# Altium integrated library Vishay Roederstein Electrolytic Radial-Lead Capacitor.IntLib: 1241 symbols (part 5 of 20)
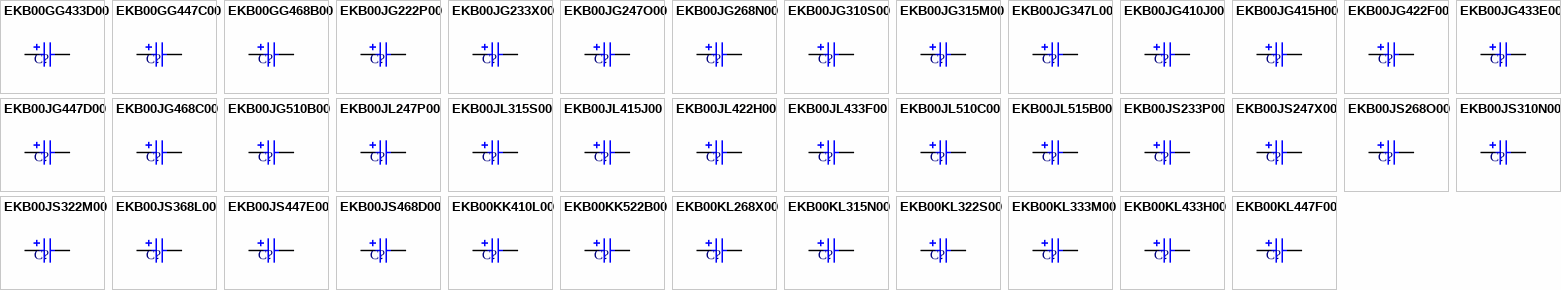
[diagram p35: symbols EKB00GG433D00 to EKB00KL447F00]

## EKB00JG468C00
designator C?
Aluminum Electrolytic Capacitor, Radial Style with Long Leads: 6800uF, 10V; Note: Refer to Manufacturer's Data Sheets for other lead formations; DrillSize: Nominal, Rounded To The Nearest 0.1mm; Published: 19-Mar-2004; DatasheetDocument: 21-Feb-2001; PackageReference: CAPPR7.5-16X25; Publisher: Altium Limited; ComponentLink1Description: Manufacturer Link; ComponentLink1URL: http://www.vishay.com/; ComponentLink2Description: Datasheet; ComponentLink2URL: http://www.vishay.com/docs/25013/ekb.pdf; Value: 6800uF
footprint CAPPR7.5-16X25 (Capacitor, Electrolytic, Radial; Body 16 x 25 mm (Dia.xH typ); Pin Spacing 7.5 mm (typ))
simulation model CAP (Capacitor)
signal-integrity model EKB00JG468C00
pins: 1, 2
1 alternate drawing of the same symbol

## EKB00JG510B00
designator C?
Aluminum Electrolytic Capacitor, Radial Style with Long Leads: 10000uF, 6.3V; Note: Refer to Manufacturer's Data Sheets for other lead formations; DrillSize: Nominal, Rounded To The Nearest 0.1mm; Published: 19-Mar-2004; DatasheetDocument: 21-Feb-2001; PackageReference: CAPPR7.5-16X25; Publisher: Altium Limited; ComponentLink1Description: Manufacturer Link; ComponentLink1URL: http://www.vishay.com/; ComponentLink2Description: Datasheet; ComponentLink2URL: http://www.vishay.com/docs/25013/ekb.pdf; Value: 10000uF
footprint CAPPR7.5-16X25 (Capacitor, Electrolytic, Radial; Body 16 x 25 mm (Dia.xH typ); Pin Spacing 7.5 mm (typ))
simulation model CAP (Capacitor)
signal-integrity model EKB00JG510B00
pins: 1, 2
1 alternate drawing of the same symbol

## EKB00JL247P00
designator C?
Aluminum Electrolytic Capacitor, Radial Style with Long Leads: 47uF, 450V; Note: Refer to Manufacturer's Data Sheets for other lead formations; DrillSize: Nominal, Rounded To The Nearest 0.1mm; Published: 19-Mar-2004; DatasheetDocument: 21-Feb-2001; PackageReference: CAPPR7.5-16X35.5; Publisher: Altium Limited; ComponentLink1Description: Manufacturer Link; ComponentLink1URL: http://www.vishay.com/; ComponentLink2Description: Datasheet; ComponentLink2URL: http://www.vishay.com/docs/25013/ekb.pdf; Value: 47uF
footprint CAPPR7.5-16X35.5 (Capacitor, Electrolytic, Radial; Body 16 x 35.5 mm (Dia.xH typ); Pin Spacing 7.5 mm (typ))
simulation model CAP (Capacitor)
signal-integrity model EKB00JL247P00
pins: 1, 2
1 alternate drawing of the same symbol

## EKB00JL315S00
designator C?
Aluminum Electrolytic Capacitor, Radial Style with Long Leads: 150uF, 200V; Note: Refer to Manufacturer's Data Sheets for other lead formations; DrillSize: Nominal, Rounded To The Nearest 0.1mm; Published: 19-Mar-2004; DatasheetDocument: 21-Feb-2001; PackageReference: CAPPR7.5-16X35.5; Publisher: Altium Limited; ComponentLink1Description: Manufacturer Link; ComponentLink1URL: http://www.vishay.com/; ComponentLink2Description: Datasheet; ComponentLink2URL: http://www.vishay.com/docs/25013/ekb.pdf; Value: 150uF
footprint CAPPR7.5-16X35.5 (Capacitor, Electrolytic, Radial; Body 16 x 35.5 mm (Dia.xH typ); Pin Spacing 7.5 mm (typ))
simulation model CAP (Capacitor)
signal-integrity model EKB00JL315S00
pins: 1, 2
1 alternate drawing of the same symbol

## EKB00JL415J00
designator C?
Aluminum Electrolytic Capacitor, Radial Style with Long Leads: 1500uF, 63V; Note: Refer to Manufacturer's Data Sheets for other lead formations; DrillSize: Nominal, Rounded To The Nearest 0.1mm; Published: 19-Mar-2004; DatasheetDocument: 21-Feb-2001; PackageReference: CAPPR7.5-16X35.5; Publisher: Altium Limited; ComponentLink1Description: Manufacturer Link; ComponentLink1URL: http://www.vishay.com/; ComponentLink2Description: Datasheet; ComponentLink2URL: http://www.vishay.com/docs/25013/ekb.pdf; Value: 1500uF
footprint CAPPR7.5-16X35.5 (Capacitor, Electrolytic, Radial; Body 16 x 35.5 mm (Dia.xH typ); Pin Spacing 7.5 mm (typ))
simulation model CAP (Capacitor)
signal-integrity model EKB00JL415J00
pins: 1, 2
1 alternate drawing of the same symbol

## EKB00JL422H00
designator C?
Aluminum Electrolytic Capacitor, Radial Style with Long Leads: 2200uF, 50V; Note: Refer to Manufacturer's Data Sheets for other lead formations; DrillSize: Nominal, Rounded To The Nearest 0.1mm; Published: 19-Mar-2004; DatasheetDocument: 21-Feb-2001; PackageReference: CAPPR7.5-16X35.5; Publisher: Altium Limited; ComponentLink1Description: Manufacturer Link; ComponentLink1URL: http://www.vishay.com/; ComponentLink2Description: Datasheet; ComponentLink2URL: http://www.vishay.com/docs/25013/ekb.pdf; Value: 2200uF
footprint CAPPR7.5-16X35.5 (Capacitor, Electrolytic, Radial; Body 16 x 35.5 mm (Dia.xH typ); Pin Spacing 7.5 mm (typ))
simulation model CAP (Capacitor)
signal-integrity model EKB00JL422H00
pins: 1, 2
1 alternate drawing of the same symbol

## EKB00JL433F00
designator C?
Aluminum Electrolytic Capacitor, Radial Style with Long Leads: 3300uF, 35V; Note: Refer to Manufacturer's Data Sheets for other lead formations; DrillSize: Nominal, Rounded To The Nearest 0.1mm; Published: 19-Mar-2004; DatasheetDocument: 21-Feb-2001; PackageReference: CAPPR7.5-16X35.5; Publisher: Altium Limited; ComponentLink1Description: Manufacturer Link; ComponentLink1URL: http://www.vishay.com/; ComponentLink2Description: Datasheet; ComponentLink2URL: http://www.vishay.com/docs/25013/ekb.pdf; Value: 3300uF
footprint CAPPR7.5-16X35.5 (Capacitor, Electrolytic, Radial; Body 16 x 35.5 mm (Dia.xH typ); Pin Spacing 7.5 mm (typ))
simulation model CAP (Capacitor)
signal-integrity model EKB00JL433F00
pins: 1, 2
1 alternate drawing of the same symbol

## EKB00JL510C00
designator C?
Aluminum Electrolytic Capacitor, Radial Style with Long Leads: 10000uF, 10V; Note: Refer to Manufacturer's Data Sheets for other lead formations; DrillSize: Nominal, Rounded To The Nearest 0.1mm; Published: 19-Mar-2004; DatasheetDocument: 21-Feb-2001; PackageReference: CAPPR7.5-16X35.5; Publisher: Altium Limited; ComponentLink1Description: Manufacturer Link; ComponentLink1URL: http://www.vishay.com/; ComponentLink2Description: Datasheet; ComponentLink2URL: http://www.vishay.com/docs/25013/ekb.pdf; Value: 10000uF
footprint CAPPR7.5-16X35.5 (Capacitor, Electrolytic, Radial; Body 16 x 35.5 mm (Dia.xH typ); Pin Spacing 7.5 mm (typ))
simulation model CAP (Capacitor)
signal-integrity model EKB00JL510C00
pins: 1, 2
1 alternate drawing of the same symbol

## EKB00JL515B00
designator C?
Aluminum Electrolytic Capacitor, Radial Style with Long Leads: 15000uF, 6.3V; Note: Refer to Manufacturer's Data Sheets for other lead formations; DrillSize: Nominal, Rounded To The Nearest 0.1mm; Published: 19-Mar-2004; DatasheetDocument: 21-Feb-2001; PackageReference: CAPPR7.5-16X35.5; Publisher: Altium Limited; ComponentLink1Description: Manufacturer Link; ComponentLink1URL: http://www.vishay.com/; ComponentLink2Description: Datasheet; ComponentLink2URL: http://www.vishay.com/docs/25013/ekb.pdf; Value: 15000uF
footprint CAPPR7.5-16X35.5 (Capacitor, Electrolytic, Radial; Body 16 x 35.5 mm (Dia.xH typ); Pin Spacing 7.5 mm (typ))
simulation model CAP (Capacitor)
signal-integrity model EKB00JL515B00
pins: 1, 2
1 alternate drawing of the same symbol

## EKB00JS233P00
designator C?
Aluminum Electrolytic Capacitor, Radial Style with Long Leads: 33uF, 450V; Note: Refer to Manufacturer's Data Sheets for other lead formations; DrillSize: Nominal, Rounded To The Nearest 0.1mm; Published: 19-Mar-2004; DatasheetDocument: 21-Feb-2001; PackageReference: CAPPR7.5-16X31.5; Publisher: Altium Limited; ComponentLink1Description: Manufacturer Link; ComponentLink1URL: http://www.vishay.com/; ComponentLink2Description: Datasheet; ComponentLink2URL: http://www.vishay.com/docs/25013/ekb.pdf; Value: 33uF
footprint CAPPR7.5-16X31.5 (Capacitor, Electrolytic, Radial; Body 16 x 31.5 mm (Dia.xH typ); Pin Spacing 7.5 mm (typ))
simulation model CAP (Capacitor)
signal-integrity model EKB00JS233P00
pins: 1, 2
1 alternate drawing of the same symbol

## EKB00JS247X00
designator C?
Aluminum Electrolytic Capacitor, Radial Style with Long Leads: 47uF, 400V; Note: Refer to Manufacturer's Data Sheets for other lead formations; DrillSize: Nominal, Rounded To The Nearest 0.1mm; Published: 19-Mar-2004; DatasheetDocument: 21-Feb-2001; PackageReference: CAPPR7.5-16X31.5; Publisher: Altium Limited; ComponentLink1Description: Manufacturer Link; ComponentLink1URL: http://www.vishay.com/; ComponentLink2Description: Datasheet; ComponentLink2URL: http://www.vishay.com/docs/25013/ekb.pdf; Value: 47uF
footprint CAPPR7.5-16X31.5 (Capacitor, Electrolytic, Radial; Body 16 x 31.5 mm (Dia.xH typ); Pin Spacing 7.5 mm (typ))
simulation model CAP (Capacitor)
signal-integrity model EKB00JS247X00
pins: 1, 2
1 alternate drawing of the same symbol

## EKB00JS268O00
designator C?
Aluminum Electrolytic Capacitor, Radial Style with Long Leads: 68uF, 350V; Note: Refer to Manufacturer's Data Sheets for other lead formations; DrillSize: Nominal, Rounded To The Nearest 0.1mm; Published: 19-Mar-2004; DatasheetDocument: 21-Feb-2001; PackageReference: CAPPR7.5-16X31.5; Publisher: Altium Limited; ComponentLink1Description: Manufacturer Link; ComponentLink1URL: http://www.vishay.com/; ComponentLink2Description: Datasheet; ComponentLink2URL: http://www.vishay.com/docs/25013/ekb.pdf; Value: 68uF
footprint CAPPR7.5-16X31.5 (Capacitor, Electrolytic, Radial; Body 16 x 31.5 mm (Dia.xH typ); Pin Spacing 7.5 mm (typ))
simulation model CAP (Capacitor)
signal-integrity model EKB00JS268O00
pins: 1, 2
1 alternate drawing of the same symbol

## EKB00JS310N00
designator C?
Aluminum Electrolytic Capacitor, Radial Style with Long Leads: 100uF, 250V; Note: Refer to Manufacturer's Data Sheets for other lead formations; DrillSize: Nominal, Rounded To The Nearest 0.1mm; Published: 19-Mar-2004; DatasheetDocument: 21-Feb-2001; PackageReference: CAPPR7.5-16X31.5; Publisher: Altium Limited; ComponentLink1Description: Manufacturer Link; ComponentLink1URL: http://www.vishay.com/; ComponentLink2Description: Datasheet; ComponentLink2URL: http://www.vishay.com/docs/25013/ekb.pdf; Value: 100uF
footprint CAPPR7.5-16X31.5 (Capacitor, Electrolytic, Radial; Body 16 x 31.5 mm (Dia.xH typ); Pin Spacing 7.5 mm (typ))
simulation model CAP (Capacitor)
signal-integrity model EKB00JS310N00
pins: 1, 2
1 alternate drawing of the same symbol

## EKB00JS322M00
designator C?
Aluminum Electrolytic Capacitor, Radial Style with Long Leads: 220uF, 160V; Note: Refer to Manufacturer's Data Sheets for other lead formations; DrillSize: Nominal, Rounded To The Nearest 0.1mm; Published: 19-Mar-2004; DatasheetDocument: 21-Feb-2001; PackageReference: CAPPR7.5-16X31.5; Publisher: Altium Limited; ComponentLink1Description: Manufacturer Link; ComponentLink1URL: http://www.vishay.com/; ComponentLink2Description: Datasheet; ComponentLink2URL: http://www.vishay.com/docs/25013/ekb.pdf; Value: 220uF
footprint CAPPR7.5-16X31.5 (Capacitor, Electrolytic, Radial; Body 16 x 31.5 mm (Dia.xH typ); Pin Spacing 7.5 mm (typ))
simulation model CAP (Capacitor)
signal-integrity model EKB00JS322M00
pins: 1, 2
1 alternate drawing of the same symbol

## EKB00JS368L00
designator C?
Aluminum Electrolytic Capacitor, Radial Style with Long Leads: 680uF, 100V; Note: Refer to Manufacturer's Data Sheets for other lead formations; DrillSize: Nominal, Rounded To The Nearest 0.1mm; Published: 19-Mar-2004; DatasheetDocument: 21-Feb-2001; PackageReference: CAPPR7.5-16X31.5; Publisher: Altium Limited; ComponentLink1Description: Manufacturer Link; ComponentLink1URL: http://www.vishay.com/; ComponentLink2Description: Datasheet; ComponentLink2URL: http://www.vishay.com/docs/25013/ekb.pdf; Value: 680uF
footprint CAPPR7.5-16X31.5 (Capacitor, Electrolytic, Radial; Body 16 x 31.5 mm (Dia.xH typ); Pin Spacing 7.5 mm (typ))
simulation model CAP (Capacitor)
signal-integrity model EKB00JS368L00
pins: 1, 2
1 alternate drawing of the same symbol

## EKB00JS447E00
designator C?
Aluminum Electrolytic Capacitor, Radial Style with Long Leads: 4700uF, 25V; Note: Refer to Manufacturer's Data Sheets for other lead formations; DrillSize: Nominal, Rounded To The Nearest 0.1mm; Published: 19-Mar-2004; DatasheetDocument: 21-Feb-2001; PackageReference: CAPPR7.5-16X31.5; Publisher: Altium Limited; ComponentLink1Description: Manufacturer Link; ComponentLink1URL: http://www.vishay.com/; ComponentLink2Description: Datasheet; ComponentLink2URL: http://www.vishay.com/docs/25013/ekb.pdf; Value: 4700uF
footprint CAPPR7.5-16X31.5 (Capacitor, Electrolytic, Radial; Body 16 x 31.5 mm (Dia.xH typ); Pin Spacing 7.5 mm (typ))
simulation model CAP (Capacitor)
signal-integrity model EKB00JS447E00
pins: 1, 2
1 alternate drawing of the same symbol

## EKB00JS468D00
designator C?
Aluminum Electrolytic Capacitor, Radial Style with Long Leads: 6800uF, 16V; Note: Refer to Manufacturer's Data Sheets for other lead formations; DrillSize: Nominal, Rounded To The Nearest 0.1mm; Published: 19-Mar-2004; DatasheetDocument: 21-Feb-2001; PackageReference: CAPPR7.5-16X31.5; Publisher: Altium Limited; ComponentLink1Description: Manufacturer Link; ComponentLink1URL: http://www.vishay.com/; ComponentLink2Description: Datasheet; ComponentLink2URL: http://www.vishay.com/docs/25013/ekb.pdf; Value: 6800uF
footprint CAPPR7.5-16X31.5 (Capacitor, Electrolytic, Radial; Body 16 x 31.5 mm (Dia.xH typ); Pin Spacing 7.5 mm (typ))
simulation model CAP (Capacitor)
signal-integrity model EKB00JS468D00
pins: 1, 2
1 alternate drawing of the same symbol

## EKB00KK410L00
designator C?
Aluminum Electrolytic Capacitor, Radial Style with Long Leads: 1000uF, 100V; Note: Refer to Manufacturer's Data Sheets for other lead formations; DrillSize: Nominal, Rounded To The Nearest 0.1mm; Published: 19-Mar-2004; DatasheetDocument: 21-Feb-2001; PackageReference: CAPPR7.5-18X40; Publisher: Altium Limited; ComponentLink1Description: Manufacturer Link; ComponentLink1URL: http://www.vishay.com/; ComponentLink2Description: Datasheet; ComponentLink2URL: http://www.vishay.com/docs/25013/ekb.pdf; Value: 1000uF
footprint CAPPR7.5-18X40 (Capacitor, Electrolytic, Radial; Body 18 x 40 mm (Dia.xH typ); Pin Spacing 7.5 mm (typ))
simulation model CAP (Capacitor)
signal-integrity model EKB00KK410L00
pins: 1, 2
1 alternate drawing of the same symbol

## EKB00KK522B00
designator C?
Aluminum Electrolytic Capacitor, Radial Style with Long Leads: 22000uF, 6.3V; Note: Refer to Manufacturer's Data Sheets for other lead formations; DrillSize: Nominal, Rounded To The Nearest 0.1mm; Published: 19-Mar-2004; DatasheetDocument: 21-Feb-2001; PackageReference: CAPPR7.5-18X40; Publisher: Altium Limited; ComponentLink1Description: Manufacturer Link; ComponentLink1URL: http://www.vishay.com/; ComponentLink2Description: Datasheet; ComponentLink2URL: http://www.vishay.com/docs/25013/ekb.pdf; Value: 22000uF
footprint CAPPR7.5-18X40 (Capacitor, Electrolytic, Radial; Body 18 x 40 mm (Dia.xH typ); Pin Spacing 7.5 mm (typ))
simulation model CAP (Capacitor)
signal-integrity model EKB00KK522B00
pins: 1, 2
1 alternate drawing of the same symbol

## EKB00KL268X00
designator C?
Aluminum Electrolytic Capacitor, Radial Style with Long Leads: 68uF, 400V; Note: Refer to Manufacturer's Data Sheets for other lead formations; DrillSize: Nominal, Rounded To The Nearest 0.1mm; Published: 19-Mar-2004; DatasheetDocument: 21-Feb-2001; PackageReference: CAPPR7.5-18X35.5; Publisher: Altium Limited; ComponentLink1Description: Manufacturer Link; ComponentLink1URL: http://www.vishay.com/; ComponentLink2Description: Datasheet; ComponentLink2URL: http://www.vishay.com/docs/25013/ekb.pdf; Value: 68uF
footprint CAPPR7.5-18X35.5 (Capacitor, Electrolytic, Radial; Body 18 x 35.5 mm (Dia.xH typ); Pin Spacing 7.5 mm (typ))
simulation model CAP (Capacitor)
signal-integrity model EKB00KL268X00
pins: 1, 2
1 alternate drawing of the same symbol

## EKB00KL315N00
designator C?
Aluminum Electrolytic Capacitor, Radial Style with Long Leads: 150uF, 250V; Note: Refer to Manufacturer's Data Sheets for other lead formations; DrillSize: Nominal, Rounded To The Nearest 0.1mm; Published: 19-Mar-2004; DatasheetDocument: 21-Feb-2001; PackageReference: CAPPR7.5-18X35.5; Publisher: Altium Limited; ComponentLink1Description: Manufacturer Link; ComponentLink1URL: http://www.vishay.com/; ComponentLink2Description: Datasheet; ComponentLink2URL: http://www.vishay.com/docs/25013/ekb.pdf; Value: 150uF
footprint CAPPR7.5-18X35.5 (Capacitor, Electrolytic, Radial; Body 18 x 35.5 mm (Dia.xH typ); Pin Spacing 7.5 mm (typ))
simulation model CAP (Capacitor)
signal-integrity model EKB00KL315N00
pins: 1, 2
1 alternate drawing of the same symbol

## EKB00KL322S00
designator C?
Aluminum Electrolytic Capacitor, Radial Style with Long Leads: 220uF, 200V; Note: Refer to Manufacturer's Data Sheets for other lead formations; DrillSize: Nominal, Rounded To The Nearest 0.1mm; Published: 19-Mar-2004; DatasheetDocument: 21-Feb-2001; PackageReference: CAPPR7.5-18X35.5; Publisher: Altium Limited; ComponentLink1Description: Manufacturer Link; ComponentLink1URL: http://www.vishay.com/; ComponentLink2Description: Datasheet; ComponentLink2URL: http://www.vishay.com/docs/25013/ekb.pdf; Value: 220uF
footprint CAPPR7.5-18X35.5 (Capacitor, Electrolytic, Radial; Body 18 x 35.5 mm (Dia.xH typ); Pin Spacing 7.5 mm (typ))
simulation model CAP (Capacitor)
signal-integrity model EKB00KL322S00
pins: 1, 2
1 alternate drawing of the same symbol

## EKB00KL333M00
designator C?
Aluminum Electrolytic Capacitor, Radial Style with Long Leads: 330uF, 160V; Note: Refer to Manufacturer's Data Sheets for other lead formations; DrillSize: Nominal, Rounded To The Nearest 0.1mm; Published: 19-Mar-2004; DatasheetDocument: 21-Feb-2001; PackageReference: CAPPR7.5-18X35.5; Publisher: Altium Limited; ComponentLink1Description: Manufacturer Link; ComponentLink1URL: http://www.vishay.com/; ComponentLink2Description: Datasheet; ComponentLink2URL: http://www.vishay.com/docs/25013/ekb.pdf; Value: 330uF
footprint CAPPR7.5-18X35.5 (Capacitor, Electrolytic, Radial; Body 18 x 35.5 mm (Dia.xH typ); Pin Spacing 7.5 mm (typ))
simulation model CAP (Capacitor)
signal-integrity model EKB00KL333M00
pins: 1, 2
1 alternate drawing of the same symbol

## EKB00KL433H00
designator C?
Aluminum Electrolytic Capacitor, Radial Style with Long Leads: 3300uF, 50V; Note: Refer to Manufacturer's Data Sheets for other lead formations; DrillSize: Nominal, Rounded To The Nearest 0.1mm; Published: 19-Mar-2004; DatasheetDocument: 21-Feb-2001; PackageReference: CAPPR7.5-18X35.5; Publisher: Altium Limited; ComponentLink1Description: Manufacturer Link; ComponentLink1URL: http://www.vishay.com/; ComponentLink2Description: Datasheet; ComponentLink2URL: http://www.vishay.com/docs/25013/ekb.pdf; Value: 3300uF
footprint CAPPR7.5-18X35.5 (Capacitor, Electrolytic, Radial; Body 18 x 35.5 mm (Dia.xH typ); Pin Spacing 7.5 mm (typ))
simulation model CAP (Capacitor)
signal-integrity model EKB00KL433H00
pins: 1, 2
1 alternate drawing of the same symbol

## EKB00KL447F00
designator C?
Aluminum Electrolytic Capacitor, Radial Style with Long Leads: 4700uF, 35V; Note: Refer to Manufacturer's Data Sheets for other lead formations; DrillSize: Nominal, Rounded To The Nearest 0.1mm; Published: 19-Mar-2004; DatasheetDocument: 21-Feb-2001; PackageReference: CAPPR7.5-18X35.5; Publisher: Altium Limited; ComponentLink1Description: Manufacturer Link; ComponentLink1URL: http://www.vishay.com/; ComponentLink2Description: Datasheet; ComponentLink2URL: http://www.vishay.com/docs/25013/ekb.pdf; Value: 4700uF
footprint CAPPR7.5-18X35.5 (Capacitor, Electrolytic, Radial; Body 18 x 35.5 mm (Dia.xH typ); Pin Spacing 7.5 mm (typ))
simulation model CAP (Capacitor)
signal-integrity model EKB00KL447F00
pins: 1, 2
1 alternate drawing of the same symbol

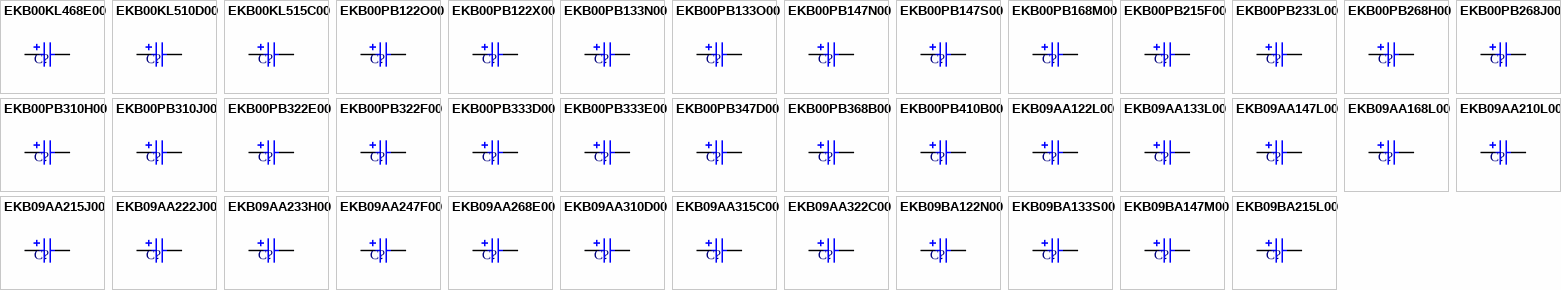
[diagram p7: symbols EKB00KL468E00 to EKB09BA215L00]

## EKB00KL468E00
designator C?
Aluminum Electrolytic Capacitor, Radial Style with Long Leads: 6800uF, 25V; Note: Refer to Manufacturer's Data Sheets for other lead formations; DrillSize: Nominal, Rounded To The Nearest 0.1mm; Published: 19-Mar-2004; DatasheetDocument: 21-Feb-2001; PackageReference: CAPPR7.5-18X35.5; Publisher: Altium Limited; ComponentLink1Description: Manufacturer Link; ComponentLink1URL: http://www.vishay.com/; ComponentLink2Description: Datasheet; ComponentLink2URL: http://www.vishay.com/docs/25013/ekb.pdf; Value: 6800uF
footprint CAPPR7.5-18X35.5 (Capacitor, Electrolytic, Radial; Body 18 x 35.5 mm (Dia.xH typ); Pin Spacing 7.5 mm (typ))
simulation model CAP (Capacitor)
signal-integrity model EKB00KL468E00
pins: 1, 2
1 alternate drawing of the same symbol

## EKB00KL510D00
designator C?
Aluminum Electrolytic Capacitor, Radial Style with Long Leads: 10000uF, 16V; Note: Refer to Manufacturer's Data Sheets for other lead formations; DrillSize: Nominal, Rounded To The Nearest 0.1mm; Published: 19-Mar-2004; DatasheetDocument: 21-Feb-2001; PackageReference: CAPPR7.5-18X35.5; Publisher: Altium Limited; ComponentLink1Description: Manufacturer Link; ComponentLink1URL: http://www.vishay.com/; ComponentLink2Description: Datasheet; ComponentLink2URL: http://www.vishay.com/docs/25013/ekb.pdf; Value: 10000uF
footprint CAPPR7.5-18X35.5 (Capacitor, Electrolytic, Radial; Body 18 x 35.5 mm (Dia.xH typ); Pin Spacing 7.5 mm (typ))
simulation model CAP (Capacitor)
signal-integrity model EKB00KL510D00
pins: 1, 2
1 alternate drawing of the same symbol

## EKB00KL515C00
designator C?
Aluminum Electrolytic Capacitor, Radial Style with Long Leads: 15000uF, 10V; Note: Refer to Manufacturer's Data Sheets for other lead formations; DrillSize: Nominal, Rounded To The Nearest 0.1mm; Published: 19-Mar-2004; DatasheetDocument: 21-Feb-2001; PackageReference: CAPPR7.5-18X35.5; Publisher: Altium Limited; ComponentLink1Description: Manufacturer Link; ComponentLink1URL: http://www.vishay.com/; ComponentLink2Description: Datasheet; ComponentLink2URL: http://www.vishay.com/docs/25013/ekb.pdf; Value: 15000uF
footprint CAPPR7.5-18X35.5 (Capacitor, Electrolytic, Radial; Body 18 x 35.5 mm (Dia.xH typ); Pin Spacing 7.5 mm (typ))
simulation model CAP (Capacitor)
signal-integrity model EKB00KL515C00
pins: 1, 2
1 alternate drawing of the same symbol

## EKB00PB122O00
designator C?
Aluminum Electrolytic Capacitor, Radial Style with Long Leads: 2.2uF, 350V; Note: Refer to Manufacturer's Data Sheets for other lead formations; DrillSize: Nominal, Rounded To The Nearest 0.1mm; Published: 19-Mar-2004; DatasheetDocument: 21-Feb-2001; PackageReference: CAPPR3.5-8X11.5; Publisher: Altium Limited; ComponentLink1Description: Manufacturer Link; ComponentLink1URL: http://www.vishay.com/; ComponentLink2Description: Datasheet; ComponentLink2URL: http://www.vishay.com/docs/25013/ekb.pdf; Value: 2.2uF
footprint CAPPR3.5-8X11.5 (Capacitor, Electrolytic, Radial; Body 8 x 11.5 mm (Dia.xH typ); Pin Spacing 3.5 mm (typ))
simulation model CAP (Capacitor)
signal-integrity model EKB00PB122O00
pins: 1, 2
1 alternate drawing of the same symbol

## EKB00PB122X00
designator C?
Aluminum Electrolytic Capacitor, Radial Style with Long Leads: 2.2uF, 400V; Note: Refer to Manufacturer's Data Sheets for other lead formations; DrillSize: Nominal, Rounded To The Nearest 0.1mm; Published: 19-Mar-2004; DatasheetDocument: 21-Feb-2001; PackageReference: CAPPR3.5-8X11.5; Publisher: Altium Limited; ComponentLink1Description: Manufacturer Link; ComponentLink1URL: http://www.vishay.com/; ComponentLink2Description: Datasheet; ComponentLink2URL: http://www.vishay.com/docs/25013/ekb.pdf; Value: 2.2uF
footprint CAPPR3.5-8X11.5 (Capacitor, Electrolytic, Radial; Body 8 x 11.5 mm (Dia.xH typ); Pin Spacing 3.5 mm (typ))
simulation model CAP (Capacitor)
signal-integrity model EKB00PB122X00
pins: 1, 2
1 alternate drawing of the same symbol

## EKB00PB133N00
designator C?
Aluminum Electrolytic Capacitor, Radial Style with Long Leads: 3.3uF, 250V; Note: Refer to Manufacturer's Data Sheets for other lead formations; DrillSize: Nominal, Rounded To The Nearest 0.1mm; Published: 19-Mar-2004; DatasheetDocument: 21-Feb-2001; PackageReference: CAPPR3.5-8X11.5; Publisher: Altium Limited; ComponentLink1Description: Manufacturer Link; ComponentLink1URL: http://www.vishay.com/; ComponentLink2Description: Datasheet; ComponentLink2URL: http://www.vishay.com/docs/25013/ekb.pdf; Value: 3.3uF
footprint CAPPR3.5-8X11.5 (Capacitor, Electrolytic, Radial; Body 8 x 11.5 mm (Dia.xH typ); Pin Spacing 3.5 mm (typ))
simulation model CAP (Capacitor)
signal-integrity model EKB00PB133N00
pins: 1, 2
1 alternate drawing of the same symbol

## EKB00PB133O00
designator C?
Aluminum Electrolytic Capacitor, Radial Style with Long Leads: 3.3uF, 350V; Note: Refer to Manufacturer's Data Sheets for other lead formations; DrillSize: Nominal, Rounded To The Nearest 0.1mm; Published: 19-Mar-2004; DatasheetDocument: 21-Feb-2001; PackageReference: CAPPR3.5-8X11.5; Publisher: Altium Limited; ComponentLink1Description: Manufacturer Link; ComponentLink1URL: http://www.vishay.com/; ComponentLink2Description: Datasheet; ComponentLink2URL: http://www.vishay.com/docs/25013/ekb.pdf; Value: 3.3uF
footprint CAPPR3.5-8X11.5 (Capacitor, Electrolytic, Radial; Body 8 x 11.5 mm (Dia.xH typ); Pin Spacing 3.5 mm (typ))
simulation model CAP (Capacitor)
signal-integrity model EKB00PB133O00
pins: 1, 2
1 alternate drawing of the same symbol

## EKB00PB147N00
designator C?
Aluminum Electrolytic Capacitor, Radial Style with Long Leads: 4.7uF, 250V; Note: Refer to Manufacturer's Data Sheets for other lead formations; DrillSize: Nominal, Rounded To The Nearest 0.1mm; Published: 19-Mar-2004; DatasheetDocument: 21-Feb-2001; PackageReference: CAPPR3.5-8X11.5; Publisher: Altium Limited; ComponentLink1Description: Manufacturer Link; ComponentLink1URL: http://www.vishay.com/; ComponentLink2Description: Datasheet; ComponentLink2URL: http://www.vishay.com/docs/25013/ekb.pdf; Value: 4.7uF
footprint CAPPR3.5-8X11.5 (Capacitor, Electrolytic, Radial; Body 8 x 11.5 mm (Dia.xH typ); Pin Spacing 3.5 mm (typ))
simulation model CAP (Capacitor)
signal-integrity model EKB00PB147N00
pins: 1, 2
1 alternate drawing of the same symbol

## EKB00PB147S00
designator C?
Aluminum Electrolytic Capacitor, Radial Style with Long Leads: 4.7uF, 200V; Note: Refer to Manufacturer's Data Sheets for other lead formations; DrillSize: Nominal, Rounded To The Nearest 0.1mm; Published: 19-Mar-2004; DatasheetDocument: 21-Feb-2001; PackageReference: CAPPR3.5-8X11.5; Publisher: Altium Limited; ComponentLink1Description: Manufacturer Link; ComponentLink1URL: http://www.vishay.com/; ComponentLink2Description: Datasheet; ComponentLink2URL: http://www.vishay.com/docs/25013/ekb.pdf; Value: 4.7uF
footprint CAPPR3.5-8X11.5 (Capacitor, Electrolytic, Radial; Body 8 x 11.5 mm (Dia.xH typ); Pin Spacing 3.5 mm (typ))
simulation model CAP (Capacitor)
signal-integrity model EKB00PB147S00
pins: 1, 2
1 alternate drawing of the same symbol

## EKB00PB168M00
designator C?
Aluminum Electrolytic Capacitor, Radial Style with Long Leads: 6.8uF, 160V; Note: Refer to Manufacturer's Data Sheets for other lead formations; DrillSize: Nominal, Rounded To The Nearest 0.1mm; Published: 19-Mar-2004; DatasheetDocument: 21-Feb-2001; PackageReference: CAPPR3.5-8X11.5; Publisher: Altium Limited; ComponentLink1Description: Manufacturer Link; ComponentLink1URL: http://www.vishay.com/; ComponentLink2Description: Datasheet; ComponentLink2URL: http://www.vishay.com/docs/25013/ekb.pdf; Value: 6.8uF
footprint CAPPR3.5-8X11.5 (Capacitor, Electrolytic, Radial; Body 8 x 11.5 mm (Dia.xH typ); Pin Spacing 3.5 mm (typ))
simulation model CAP (Capacitor)
signal-integrity model EKB00PB168M00
pins: 1, 2
1 alternate drawing of the same symbol

## EKB00PB215F00
designator C?
Aluminum Electrolytic Capacitor, Radial Style with Long Leads: 150uF, 35V; Note: Refer to Manufacturer's Data Sheets for other lead formations; DrillSize: Nominal, Rounded To The Nearest 0.1mm; Published: 19-Mar-2004; DatasheetDocument: 21-Feb-2001; PackageReference: CAPPR3.5-8X11.5; Publisher: Altium Limited; ComponentLink1Description: Manufacturer Link; ComponentLink1URL: http://www.vishay.com/; ComponentLink2Description: Datasheet; ComponentLink2URL: http://www.vishay.com/docs/25013/ekb.pdf; Value: 150uF
footprint CAPPR3.5-8X11.5 (Capacitor, Electrolytic, Radial; Body 8 x 11.5 mm (Dia.xH typ); Pin Spacing 3.5 mm (typ))
simulation model CAP (Capacitor)
signal-integrity model EKB00PB215F00
pins: 1, 2
1 alternate drawing of the same symbol

## EKB00PB233L00
designator C?
Aluminum Electrolytic Capacitor, Radial Style with Long Leads: 33uF, 100V; Note: Refer to Manufacturer's Data Sheets for other lead formations; DrillSize: Nominal, Rounded To The Nearest 0.1mm; Published: 19-Mar-2004; DatasheetDocument: 21-Feb-2001; PackageReference: CAPPR3.5-8X11.5; Publisher: Altium Limited; ComponentLink1Description: Manufacturer Link; ComponentLink1URL: http://www.vishay.com/; ComponentLink2Description: Datasheet; ComponentLink2URL: http://www.vishay.com/docs/25013/ekb.pdf; Value: 33uF
footprint CAPPR3.5-8X11.5 (Capacitor, Electrolytic, Radial; Body 8 x 11.5 mm (Dia.xH typ); Pin Spacing 3.5 mm (typ))
simulation model CAP (Capacitor)
signal-integrity model EKB00PB233L00
pins: 1, 2
1 alternate drawing of the same symbol

## EKB00PB268H00
designator C?
Aluminum Electrolytic Capacitor, Radial Style with Long Leads: 68uF, 50V; Note: Refer to Manufacturer's Data Sheets for other lead formations; DrillSize: Nominal, Rounded To The Nearest 0.1mm; Published: 19-Mar-2004; DatasheetDocument: 21-Feb-2001; PackageReference: CAPPR3.5-8X11.5; Publisher: Altium Limited; ComponentLink1Description: Manufacturer Link; ComponentLink1URL: http://www.vishay.com/; ComponentLink2Description: Datasheet; ComponentLink2URL: http://www.vishay.com/docs/25013/ekb.pdf; Value: 68uF
footprint CAPPR3.5-8X11.5 (Capacitor, Electrolytic, Radial; Body 8 x 11.5 mm (Dia.xH typ); Pin Spacing 3.5 mm (typ))
simulation model CAP (Capacitor)
signal-integrity model EKB00PB268H00
pins: 1, 2
1 alternate drawing of the same symbol

## EKB00PB268J00
designator C?
Aluminum Electrolytic Capacitor, Radial Style with Long Leads: 68uF, 63V; Note: Refer to Manufacturer's Data Sheets for other lead formations; DrillSize: Nominal, Rounded To The Nearest 0.1mm; Published: 19-Mar-2004; DatasheetDocument: 21-Feb-2001; PackageReference: CAPPR3.5-8X11.5; Publisher: Altium Limited; ComponentLink1Description: Manufacturer Link; ComponentLink1URL: http://www.vishay.com/; ComponentLink2Description: Datasheet; ComponentLink2URL: http://www.vishay.com/docs/25013/ekb.pdf; Value: 68uF
footprint CAPPR3.5-8X11.5 (Capacitor, Electrolytic, Radial; Body 8 x 11.5 mm (Dia.xH typ); Pin Spacing 3.5 mm (typ))
simulation model CAP (Capacitor)
signal-integrity model EKB00PB268J00
pins: 1, 2
1 alternate drawing of the same symbol

## EKB00PB310H00
designator C?
Aluminum Electrolytic Capacitor, Radial Style with Long Leads: 100uF, 50V; Note: Refer to Manufacturer's Data Sheets for other lead formations; DrillSize: Nominal, Rounded To The Nearest 0.1mm; Published: 19-Mar-2004; DatasheetDocument: 21-Feb-2001; PackageReference: CAPPR3.5-8X11.5; Publisher: Altium Limited; ComponentLink1Description: Manufacturer Link; ComponentLink1URL: http://www.vishay.com/; ComponentLink2Description: Datasheet; ComponentLink2URL: http://www.vishay.com/docs/25013/ekb.pdf; Value: 100uF
footprint CAPPR3.5-8X11.5 (Capacitor, Electrolytic, Radial; Body 8 x 11.5 mm (Dia.xH typ); Pin Spacing 3.5 mm (typ))
simulation model CAP (Capacitor)
signal-integrity model EKB00PB310H00
pins: 1, 2
1 alternate drawing of the same symbol

## EKB00PB310J00
designator C?
Aluminum Electrolytic Capacitor, Radial Style with Long Leads: 100uF, 63V; Note: Refer to Manufacturer's Data Sheets for other lead formations; DrillSize: Nominal, Rounded To The Nearest 0.1mm; Published: 19-Mar-2004; DatasheetDocument: 21-Feb-2001; PackageReference: CAPPR3.5-8X11.5; Publisher: Altium Limited; ComponentLink1Description: Manufacturer Link; ComponentLink1URL: http://www.vishay.com/; ComponentLink2Description: Datasheet; ComponentLink2URL: http://www.vishay.com/docs/25013/ekb.pdf; Value: 100uF
footprint CAPPR3.5-8X11.5 (Capacitor, Electrolytic, Radial; Body 8 x 11.5 mm (Dia.xH typ); Pin Spacing 3.5 mm (typ))
simulation model CAP (Capacitor)
signal-integrity model EKB00PB310J00
pins: 1, 2
1 alternate drawing of the same symbol

## EKB00PB322E00
designator C?
Aluminum Electrolytic Capacitor, Radial Style with Long Leads: 220uF, 25V; Note: Refer to Manufacturer's Data Sheets for other lead formations; DrillSize: Nominal, Rounded To The Nearest 0.1mm; Published: 19-Mar-2004; DatasheetDocument: 21-Feb-2001; PackageReference: CAPPR3.5-8X11.5; Publisher: Altium Limited; ComponentLink1Description: Manufacturer Link; ComponentLink1URL: http://www.vishay.com/; ComponentLink2Description: Datasheet; ComponentLink2URL: http://www.vishay.com/docs/25013/ekb.pdf; Value: 220uF
footprint CAPPR3.5-8X11.5 (Capacitor, Electrolytic, Radial; Body 8 x 11.5 mm (Dia.xH typ); Pin Spacing 3.5 mm (typ))
simulation model CAP (Capacitor)
signal-integrity model EKB00PB322E00
pins: 1, 2
1 alternate drawing of the same symbol

## EKB00PB322F00
designator C?
Aluminum Electrolytic Capacitor, Radial Style with Long Leads: 220uF, 35V; Note: Refer to Manufacturer's Data Sheets for other lead formations; DrillSize: Nominal, Rounded To The Nearest 0.1mm; Published: 19-Mar-2004; DatasheetDocument: 21-Feb-2001; PackageReference: CAPPR3.5-8X11.5; Publisher: Altium Limited; ComponentLink1Description: Manufacturer Link; ComponentLink1URL: http://www.vishay.com/; ComponentLink2Description: Datasheet; ComponentLink2URL: http://www.vishay.com/docs/25013/ekb.pdf; Value: 220uF
footprint CAPPR3.5-8X11.5 (Capacitor, Electrolytic, Radial; Body 8 x 11.5 mm (Dia.xH typ); Pin Spacing 3.5 mm (typ))
simulation model CAP (Capacitor)
signal-integrity model EKB00PB322F00
pins: 1, 2
1 alternate drawing of the same symbol

## EKB00PB333D00
designator C?
Aluminum Electrolytic Capacitor, Radial Style with Long Leads: 330uF, 16V; Note: Refer to Manufacturer's Data Sheets for other lead formations; DrillSize: Nominal, Rounded To The Nearest 0.1mm; Published: 19-Mar-2004; DatasheetDocument: 21-Feb-2001; PackageReference: CAPPR3.5-8X11.5; Publisher: Altium Limited; ComponentLink1Description: Manufacturer Link; ComponentLink1URL: http://www.vishay.com/; ComponentLink2Description: Datasheet; ComponentLink2URL: http://www.vishay.com/docs/25013/ekb.pdf; Value: 330uF
footprint CAPPR3.5-8X11.5 (Capacitor, Electrolytic, Radial; Body 8 x 11.5 mm (Dia.xH typ); Pin Spacing 3.5 mm (typ))
simulation model CAP (Capacitor)
signal-integrity model EKB00PB333D00
pins: 1, 2
1 alternate drawing of the same symbol

## EKB00PB333E00
designator C?
Aluminum Electrolytic Capacitor, Radial Style with Long Leads: 330uF, 25V; Note: Refer to Manufacturer's Data Sheets for other lead formations; DrillSize: Nominal, Rounded To The Nearest 0.1mm; Published: 19-Mar-2004; DatasheetDocument: 21-Feb-2001; PackageReference: CAPPR3.5-8X11.5; Publisher: Altium Limited; ComponentLink1Description: Manufacturer Link; ComponentLink1URL: http://www.vishay.com/; ComponentLink2Description: Datasheet; ComponentLink2URL: http://www.vishay.com/docs/25013/ekb.pdf; Value: 330uF
footprint CAPPR3.5-8X11.5 (Capacitor, Electrolytic, Radial; Body 8 x 11.5 mm (Dia.xH typ); Pin Spacing 3.5 mm (typ))
simulation model CAP (Capacitor)
signal-integrity model EKB00PB333E00
pins: 1, 2
1 alternate drawing of the same symbol

## EKB00PB347D00
designator C?
Aluminum Electrolytic Capacitor, Radial Style with Long Leads: 470uF, 16V; Note: Refer to Manufacturer's Data Sheets for other lead formations; DrillSize: Nominal, Rounded To The Nearest 0.1mm; Published: 19-Mar-2004; DatasheetDocument: 21-Feb-2001; PackageReference: CAPPR3.5-8X11.5; Publisher: Altium Limited; ComponentLink1Description: Manufacturer Link; ComponentLink1URL: http://www.vishay.com/; ComponentLink2Description: Datasheet; ComponentLink2URL: http://www.vishay.com/docs/25013/ekb.pdf; Value: 470uF
footprint CAPPR3.5-8X11.5 (Capacitor, Electrolytic, Radial; Body 8 x 11.5 mm (Dia.xH typ); Pin Spacing 3.5 mm (typ))
simulation model CAP (Capacitor)
signal-integrity model EKB00PB347D00
pins: 1, 2
1 alternate drawing of the same symbol

## EKB00PB368B00
designator C?
Aluminum Electrolytic Capacitor, Radial Style with Long Leads: 680uF, 6.3V; Note: Refer to Manufacturer's Data Sheets for other lead formations; DrillSize: Nominal, Rounded To The Nearest 0.1mm; Published: 19-Mar-2004; DatasheetDocument: 21-Feb-2001; PackageReference: CAPPR3.5-8X11.5; Publisher: Altium Limited; ComponentLink1Description: Manufacturer Link; ComponentLink1URL: http://www.vishay.com/; ComponentLink2Description: Datasheet; ComponentLink2URL: http://www.vishay.com/docs/25013/ekb.pdf; Value: 680uF
footprint CAPPR3.5-8X11.5 (Capacitor, Electrolytic, Radial; Body 8 x 11.5 mm (Dia.xH typ); Pin Spacing 3.5 mm (typ))
simulation model CAP (Capacitor)
signal-integrity model EKB00PB368B00
pins: 1, 2
1 alternate drawing of the same symbol

## EKB00PB410B00
designator C?
Aluminum Electrolytic Capacitor, Radial Style with Long Leads: 1000uF, 6.3V; Note: Refer to Manufacturer's Data Sheets for other lead formations; DrillSize: Nominal, Rounded To The Nearest 0.1mm; Published: 19-Mar-2004; DatasheetDocument: 21-Feb-2001; PackageReference: CAPPR3.5-8X11.5; Publisher: Altium Limited; ComponentLink1Description: Manufacturer Link; ComponentLink1URL: http://www.vishay.com/; ComponentLink2Description: Datasheet; ComponentLink2URL: http://www.vishay.com/docs/25013/ekb.pdf; Value: 1000uF
footprint CAPPR3.5-8X11.5 (Capacitor, Electrolytic, Radial; Body 8 x 11.5 mm (Dia.xH typ); Pin Spacing 3.5 mm (typ))
simulation model CAP (Capacitor)
signal-integrity model EKB00PB410B00
pins: 1, 2
1 alternate drawing of the same symbol

## EKB09AA122L00
designator C?
Aluminum Electrolytic Capacitor, Radial Style with Leads Bent Open, Shortened: 2.2uF, 100V; Note: Refer to Manufacturer's Data Sheets for other lead formations; DrillSize: Nominal, Rounded To The Nearest 0.1mm; Published: 19-Mar-2004; DatasheetDocument: 21-Feb-2001; PackageReference: CAPPR5-5X11; Publisher: Altium Limited; ComponentLink1Description: Manufacturer Link; ComponentLink1URL: http://www.vishay.com/; ComponentLink2Description: Datasheet; ComponentLink2URL: http://www.vishay.com/docs/25013/ekb.pdf; Value: 2.2uF
footprint CAPPR5-5X11 (Capacitor, Electrolytic, Radial; Body 5 x 11 mm (Dia.xH typ); Pin Spacing 5 mm (typ))
simulation model CAP (Capacitor)
signal-integrity model EKB09AA122L00
pins: 1, 2
1 alternate drawing of the same symbol

## EKB09AA133L00
designator C?
Aluminum Electrolytic Capacitor, Radial Style with Leads Bent Open, Shortened: 3.3uF, 100V; Note: Refer to Manufacturer's Data Sheets for other lead formations; DrillSize: Nominal, Rounded To The Nearest 0.1mm; Published: 19-Mar-2004; DatasheetDocument: 21-Feb-2001; PackageReference: CAPPR5-5X11; Publisher: Altium Limited; ComponentLink1Description: Manufacturer Link; ComponentLink1URL: http://www.vishay.com/; ComponentLink2Description: Datasheet; ComponentLink2URL: http://www.vishay.com/docs/25013/ekb.pdf; Value: 3.3uF
footprint CAPPR5-5X11 (Capacitor, Electrolytic, Radial; Body 5 x 11 mm (Dia.xH typ); Pin Spacing 5 mm (typ))
simulation model CAP (Capacitor)
signal-integrity model EKB09AA133L00
pins: 1, 2
1 alternate drawing of the same symbol

## EKB09AA147L00
designator C?
Aluminum Electrolytic Capacitor, Radial Style with Leads Bent Open, Shortened: 4.7uF, 100V; Note: Refer to Manufacturer's Data Sheets for other lead formations; DrillSize: Nominal, Rounded To The Nearest 0.1mm; Published: 19-Mar-2004; DatasheetDocument: 21-Feb-2001; PackageReference: CAPPR5-5X11; Publisher: Altium Limited; ComponentLink1Description: Manufacturer Link; ComponentLink1URL: http://www.vishay.com/; ComponentLink2Description: Datasheet; ComponentLink2URL: http://www.vishay.com/docs/25013/ekb.pdf; Value: 4.7uF
footprint CAPPR5-5X11 (Capacitor, Electrolytic, Radial; Body 5 x 11 mm (Dia.xH typ); Pin Spacing 5 mm (typ))
simulation model CAP (Capacitor)
signal-integrity model EKB09AA147L00
pins: 1, 2
1 alternate drawing of the same symbol

## EKB09AA168L00
designator C?
Aluminum Electrolytic Capacitor, Radial Style with Leads Bent Open, Shortened: 6.8uF, 100V; Note: Refer to Manufacturer's Data Sheets for other lead formations; DrillSize: Nominal, Rounded To The Nearest 0.1mm; Published: 19-Mar-2004; DatasheetDocument: 21-Feb-2001; PackageReference: CAPPR5-5X11; Publisher: Altium Limited; ComponentLink1Description: Manufacturer Link; ComponentLink1URL: http://www.vishay.com/; ComponentLink2Description: Datasheet; ComponentLink2URL: http://www.vishay.com/docs/25013/ekb.pdf; Value: 6.8uF
footprint CAPPR5-5X11 (Capacitor, Electrolytic, Radial; Body 5 x 11 mm (Dia.xH typ); Pin Spacing 5 mm (typ))
simulation model CAP (Capacitor)
signal-integrity model EKB09AA168L00
pins: 1, 2
1 alternate drawing of the same symbol

## EKB09AA210L00
designator C?
Aluminum Electrolytic Capacitor, Radial Style with Leads Bent Open, Shortened: 10uF, 100V; Note: Refer to Manufacturer's Data Sheets for other lead formations; DrillSize: Nominal, Rounded To The Nearest 0.1mm; Published: 19-Mar-2004; DatasheetDocument: 21-Feb-2001; PackageReference: CAPPR5-5X11; Publisher: Altium Limited; ComponentLink1Description: Manufacturer Link; ComponentLink1URL: http://www.vishay.com/; ComponentLink2Description: Datasheet; ComponentLink2URL: http://www.vishay.com/docs/25013/ekb.pdf; Value: 10uF
footprint CAPPR5-5X11 (Capacitor, Electrolytic, Radial; Body 5 x 11 mm (Dia.xH typ); Pin Spacing 5 mm (typ))
simulation model CAP (Capacitor)
signal-integrity model EKB09AA210L00
pins: 1, 2
1 alternate drawing of the same symbol

## EKB09AA215J00
designator C?
Aluminum Electrolytic Capacitor, Radial Style with Leads Bent Open, Shortened: 15uF, 63V; Note: Refer to Manufacturer's Data Sheets for other lead formations; DrillSize: Nominal, Rounded To The Nearest 0.1mm; Published: 19-Mar-2004; DatasheetDocument: 21-Feb-2001; PackageReference: CAPPR5-5X11; Publisher: Altium Limited; ComponentLink1Description: Manufacturer Link; ComponentLink1URL: http://www.vishay.com/; ComponentLink2Description: Datasheet; ComponentLink2URL: http://www.vishay.com/docs/25013/ekb.pdf; Value: 15uF
footprint CAPPR5-5X11 (Capacitor, Electrolytic, Radial; Body 5 x 11 mm (Dia.xH typ); Pin Spacing 5 mm (typ))
simulation model CAP (Capacitor)
signal-integrity model EKB09AA215J00
pins: 1, 2
1 alternate drawing of the same symbol

## EKB09AA222J00
designator C?
Aluminum Electrolytic Capacitor, Radial Style with Leads Bent Open, Shortened: 22uF, 63V; Note: Refer to Manufacturer's Data Sheets for other lead formations; DrillSize: Nominal, Rounded To The Nearest 0.1mm; Published: 19-Mar-2004; DatasheetDocument: 21-Feb-2001; PackageReference: CAPPR5-5X11; Publisher: Altium Limited; ComponentLink1Description: Manufacturer Link; ComponentLink1URL: http://www.vishay.com/; ComponentLink2Description: Datasheet; ComponentLink2URL: http://www.vishay.com/docs/25013/ekb.pdf; Value: 22uF
footprint CAPPR5-5X11 (Capacitor, Electrolytic, Radial; Body 5 x 11 mm (Dia.xH typ); Pin Spacing 5 mm (typ))
simulation model CAP (Capacitor)
signal-integrity model EKB09AA222J00
pins: 1, 2
1 alternate drawing of the same symbol

## EKB09AA233H00
designator C?
Aluminum Electrolytic Capacitor, Radial Style with Leads Bent Open, Shortened: 33uF, 50V; Note: Refer to Manufacturer's Data Sheets for other lead formations; DrillSize: Nominal, Rounded To The Nearest 0.1mm; Published: 19-Mar-2004; DatasheetDocument: 21-Feb-2001; PackageReference: CAPPR5-5X11; Publisher: Altium Limited; ComponentLink1Description: Manufacturer Link; ComponentLink1URL: http://www.vishay.com/; ComponentLink2Description: Datasheet; ComponentLink2URL: http://www.vishay.com/docs/25013/ekb.pdf; Value: 33uF
footprint CAPPR5-5X11 (Capacitor, Electrolytic, Radial; Body 5 x 11 mm (Dia.xH typ); Pin Spacing 5 mm (typ))
simulation model CAP (Capacitor)
signal-integrity model EKB09AA233H00
pins: 1, 2
1 alternate drawing of the same symbol

## EKB09AA247F00
designator C?
Aluminum Electrolytic Capacitor, Radial Style with Leads Bent Open, Shortened: 47uF, 35V; Note: Refer to Manufacturer's Data Sheets for other lead formations; DrillSize: Nominal, Rounded To The Nearest 0.1mm; Published: 19-Mar-2004; DatasheetDocument: 21-Feb-2001; PackageReference: CAPPR5-5X11; Publisher: Altium Limited; ComponentLink1Description: Manufacturer Link; ComponentLink1URL: http://www.vishay.com/; ComponentLink2Description: Datasheet; ComponentLink2URL: http://www.vishay.com/docs/25013/ekb.pdf; Value: 47uF
footprint CAPPR5-5X11 (Capacitor, Electrolytic, Radial; Body 5 x 11 mm (Dia.xH typ); Pin Spacing 5 mm (typ))
simulation model CAP (Capacitor)
signal-integrity model EKB09AA247F00
pins: 1, 2
1 alternate drawing of the same symbol

## EKB09AA268E00
designator C?
Aluminum Electrolytic Capacitor, Radial Style with Leads Bent Open, Shortened: 68uF, 25V; Note: Refer to Manufacturer's Data Sheets for other lead formations; DrillSize: Nominal, Rounded To The Nearest 0.1mm; Published: 19-Mar-2004; DatasheetDocument: 21-Feb-2001; PackageReference: CAPPR5-5X11; Publisher: Altium Limited; ComponentLink1Description: Manufacturer Link; ComponentLink1URL: http://www.vishay.com/; ComponentLink2Description: Datasheet; ComponentLink2URL: http://www.vishay.com/docs/25013/ekb.pdf; Value: 68uF
footprint CAPPR5-5X11 (Capacitor, Electrolytic, Radial; Body 5 x 11 mm (Dia.xH typ); Pin Spacing 5 mm (typ))
simulation model CAP (Capacitor)
signal-integrity model EKB09AA268E00
pins: 1, 2
1 alternate drawing of the same symbol

## EKB09AA310D00
designator C?
Aluminum Electrolytic Capacitor, Radial Style with Leads Bent Open, Shortened: 100uF, 16V; Note: Refer to Manufacturer's Data Sheets for other lead formations; DrillSize: Nominal, Rounded To The Nearest 0.1mm; Published: 19-Mar-2004; DatasheetDocument: 21-Feb-2001; PackageReference: CAPPR5-5X11; Publisher: Altium Limited; ComponentLink1Description: Manufacturer Link; ComponentLink1URL: http://www.vishay.com/; ComponentLink2Description: Datasheet; ComponentLink2URL: http://www.vishay.com/docs/25013/ekb.pdf; Value: 100uF
footprint CAPPR5-5X11 (Capacitor, Electrolytic, Radial; Body 5 x 11 mm (Dia.xH typ); Pin Spacing 5 mm (typ))
simulation model CAP (Capacitor)
signal-integrity model EKB09AA310D00
pins: 1, 2
1 alternate drawing of the same symbol

## EKB09AA315C00
designator C?
Aluminum Electrolytic Capacitor, Radial Style with Leads Bent Open, Shortened: 150uF, 10V; Note: Refer to Manufacturer's Data Sheets for other lead formations; DrillSize: Nominal, Rounded To The Nearest 0.1mm; Published: 19-Mar-2004; DatasheetDocument: 21-Feb-2001; PackageReference: CAPPR5-5X11; Publisher: Altium Limited; ComponentLink1Description: Manufacturer Link; ComponentLink1URL: http://www.vishay.com/; ComponentLink2Description: Datasheet; ComponentLink2URL: http://www.vishay.com/docs/25013/ekb.pdf; Value: 150uF
footprint CAPPR5-5X11 (Capacitor, Electrolytic, Radial; Body 5 x 11 mm (Dia.xH typ); Pin Spacing 5 mm (typ))
simulation model CAP (Capacitor)
signal-integrity model EKB09AA315C00
pins: 1, 2
1 alternate drawing of the same symbol

## EKB09AA322C00
designator C?
Aluminum Electrolytic Capacitor, Radial Style with Leads Bent Open, Shortened: 220uF, 10V; Note: Refer to Manufacturer's Data Sheets for other lead formations; DrillSize: Nominal, Rounded To The Nearest 0.1mm; Published: 19-Mar-2004; DatasheetDocument: 21-Feb-2001; PackageReference: CAPPR5-5X11; Publisher: Altium Limited; ComponentLink1Description: Manufacturer Link; ComponentLink1URL: http://www.vishay.com/; ComponentLink2Description: Datasheet; ComponentLink2URL: http://www.vishay.com/docs/25013/ekb.pdf; Value: 220uF
footprint CAPPR5-5X11 (Capacitor, Electrolytic, Radial; Body 5 x 11 mm (Dia.xH typ); Pin Spacing 5 mm (typ))
simulation model CAP (Capacitor)
signal-integrity model EKB09AA322C00
pins: 1, 2
1 alternate drawing of the same symbol

## EKB09BA122N00
designator C?
Aluminum Electrolytic Capacitor, Radial Style with Leads Bent Open, Shortened: 2.2uF, 250V; Note: Refer to Manufacturer's Data Sheets for other lead formations; DrillSize: Nominal, Rounded To The Nearest 0.1mm; Published: 19-Mar-2004; DatasheetDocument: 21-Feb-2001; PackageReference: CAPPR5-6.3X11; Publisher: Altium Limited; ComponentLink1Description: Manufacturer Link; ComponentLink1URL: http://www.vishay.com/; ComponentLink2Description: Datasheet; ComponentLink2URL: http://www.vishay.com/docs/25013/ekb.pdf; Value: 2.2uF
footprint CAPPR5-6.3X11 (Capacitor, Electrolytic, Radial; Body 6.3 x 11 mm (Dia.xH typ); Pin Spacing 5 mm (typ))
simulation model CAP (Capacitor)
signal-integrity model EKB09BA122N00
pins: 1, 2
1 alternate drawing of the same symbol

## EKB09BA133S00
designator C?
Aluminum Electrolytic Capacitor, Radial Style with Leads Bent Open, Shortened: 3.3uF, 200V; Note: Refer to Manufacturer's Data Sheets for other lead formations; DrillSize: Nominal, Rounded To The Nearest 0.1mm; Published: 19-Mar-2004; DatasheetDocument: 21-Feb-2001; PackageReference: CAPPR5-6.3X11; Publisher: Altium Limited; ComponentLink1Description: Manufacturer Link; ComponentLink1URL: http://www.vishay.com/; ComponentLink2Description: Datasheet; ComponentLink2URL: http://www.vishay.com/docs/25013/ekb.pdf; Value: 3.3uF
footprint CAPPR5-6.3X11 (Capacitor, Electrolytic, Radial; Body 6.3 x 11 mm (Dia.xH typ); Pin Spacing 5 mm (typ))
simulation model CAP (Capacitor)
signal-integrity model EKB09BA133S00
pins: 1, 2
1 alternate drawing of the same symbol